# Altium footprint library Potentiometer.PcbLib: 2 footprints
Each footprint in its own frame and in the unit in brackets; x right, y up, seen from the top. Pads: shape width x height; smd on the part's side, far side on the other; paste and mask are expansions set on the pad; w line width, h text height; cw(c..) or ccw(c..) is an arc to the next point about the centre after c.
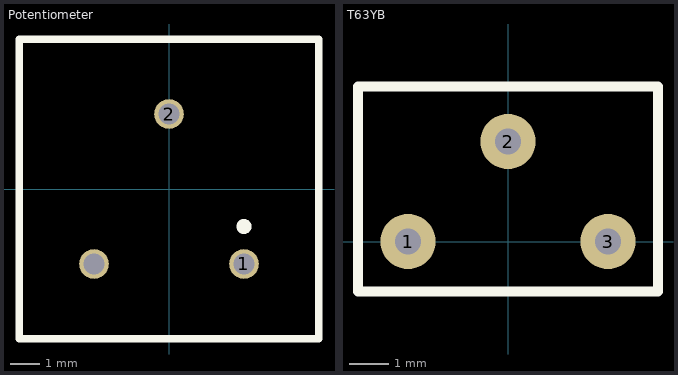
[diagram p0: the footprints below, top view; thin cyan lines are the x and y axes]

## Potentiometer [mm] "Thruhole mounting"
pads (3):
  round 1 hole 0.7: 1(2.54,-2.54) 2(0,2.54) ""(-2.54,-2.54)
Top Overlay:
  circle w0.254: c2.54,-1.27 r0.127
  lines w0.254: -5.08,-5.08 5.08,-5.08 5.08,5.08 -5.08,5.08 -5.08,-5.08
3D body: height 16.8, standoff -6.38, extent -4.762,-4.826 4.763,4.699

## T63YB [mm]
pads (3):
  round 1.4 hole 0.662: 1(-2.54,0) 2(0,2.54) 3(2.54,0)
Top Overlay:
  lines w0.254: -3.556,3.937 3.81,3.937 3.81,-1.27 -3.81,-1.27 -3.81,3.937 -3.302,3.937
3D body: height 8.2, standoff -2.6, extent -3.4,-0.762 3.4,3.938